# Altium integrated library LM1117DTX-3_3.IntLib: 1 symbol
Pins are listed as number, name and electrical type; pins without a type are passive.

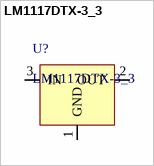
[diagram p0: symbol LM1117DTX-3_3]

## LM1117DTX-3_3
designator U?
PDF: *; BUY_LINK: *; PRICE: *; ID: LM1117DTX-3_3
footprint TO252
pins: 1 GND, 2 OUT, 3 IN